# Altium footprint library Sonar_Gonderici_PcbLib1.PcbLib: 14 footprints
Each footprint in its own frame and in the unit in brackets; x right, y up, seen from the top. Pads: shape width x height; smd on the part's side, far side on the other; paste and mask are expansions set on the pad; w line width, h text height; cw(c..) or ccw(c..) is an arc to the next point about the centre after c.
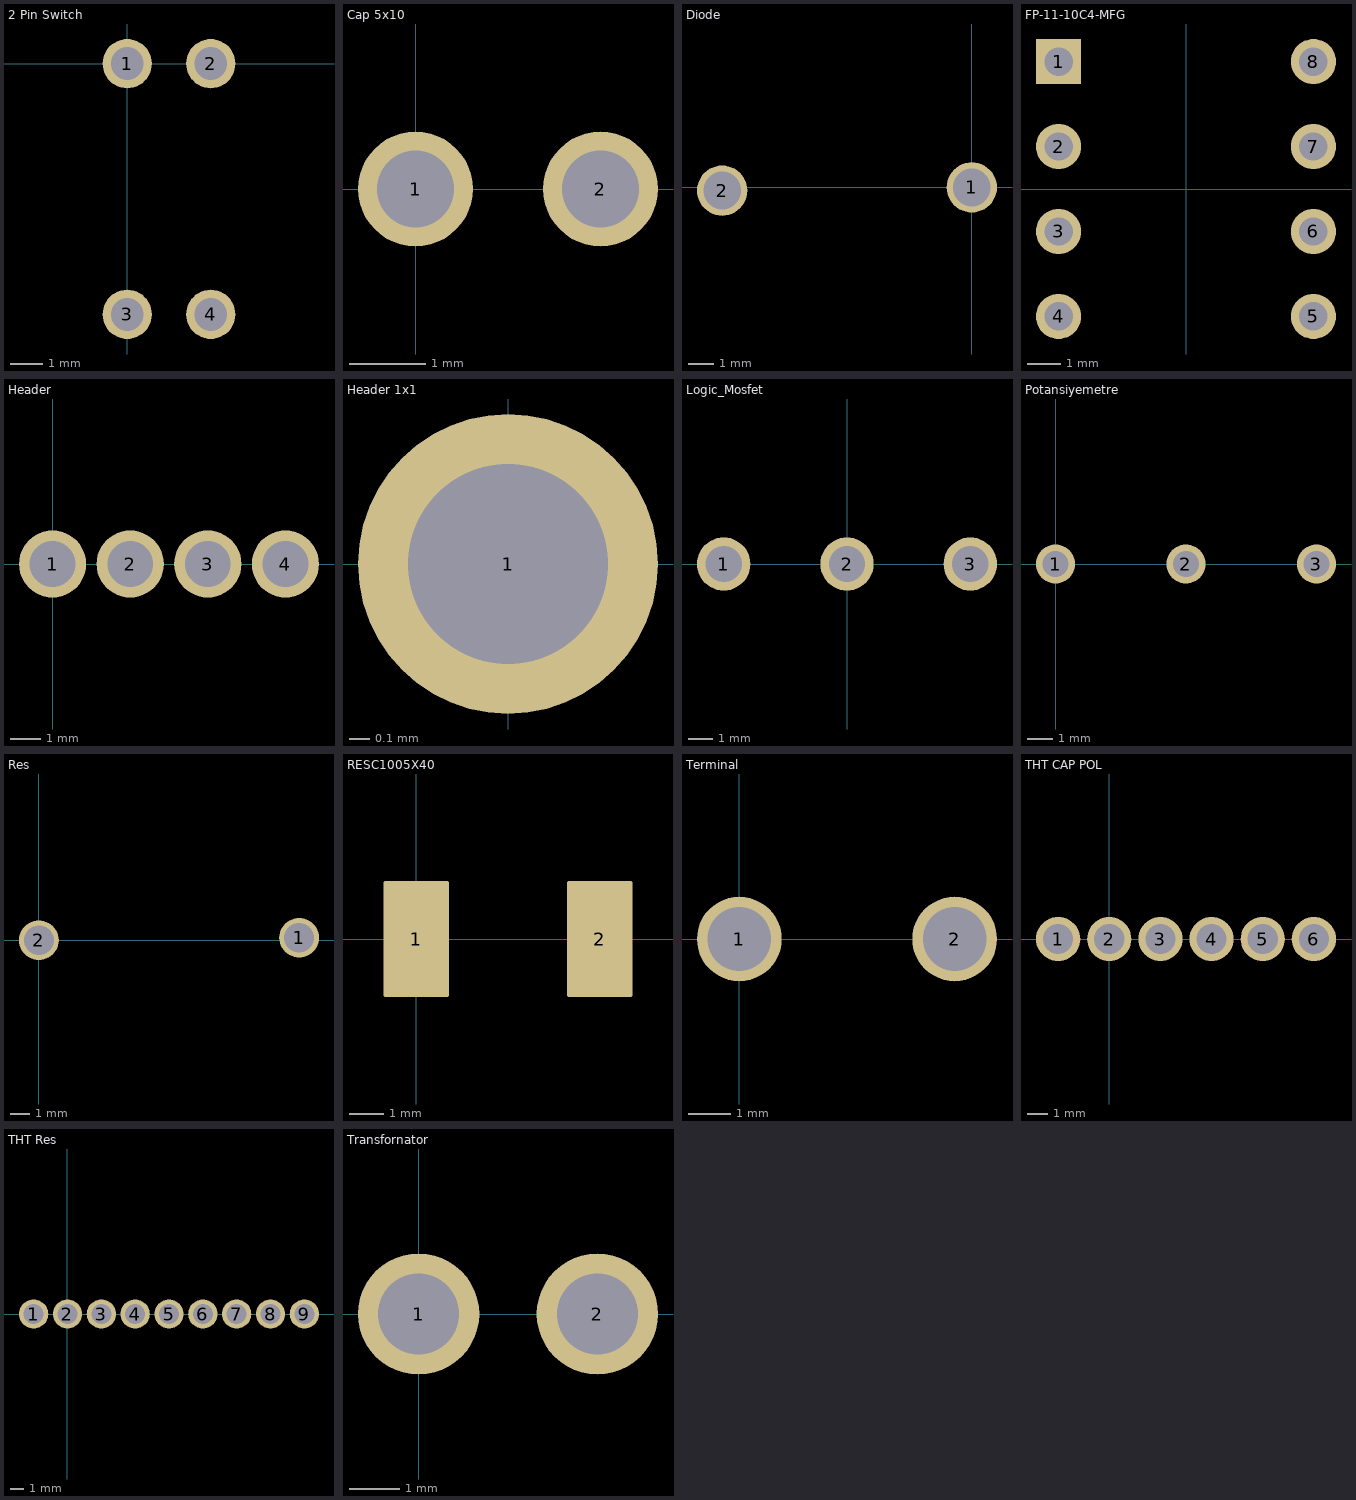
[diagram p0: the footprints below, top view; thin cyan lines are the x and y axes]

## 2 Pin Switch [mm]
pads (4):
  round 1.5 hole 1: 1(0,0) 2(2.54,0) 3(0,-7.62) 4(2.54,-7.62)
3D body "DIP Blue 2-way.step": height 6.7, standoff -2, extent -1.95,-8.76 4.49,1.14

## Cap 5x10 [mm]
pads (2):
  round 1.5 hole 1: 1(0,0) 2(2.413,0)
3D body "CAP_10uF_50V_low_profile.stp": height 1.6, standoff -9, extent -2.018,-3.16 4.304,3.16

## Diode [mm]
pads (2):
  round 2 hole 1.5: 1(0,0) 2(-9.906,-0.127)
3D body "CircuitWorks-DIODE0_41.STEP": height 4.55, standoff -0.54, extent -10.414,-1.422 0.508,1.143

## FP-11-10C4-MFG [mm]
pads (8):
  rect 1.35x1.35 hole 0.85 paste-1000 mask+0: 1(-3.81,3.81)
  round 1.35 hole 0.85 paste-1000 mask+0: 2(-3.81,1.27) 3(-3.81,-1.27) 4(-3.81,-3.81) 5(3.81,-3.81) 6(3.81,-1.27) 7(3.81,1.27) 8(3.81,3.81)
3D body "Trans_TOSHIBA_TLP250_eec.STEP": height 8.85, standoff 1.5, extent -3.935,-4.83 3.935,4.83
3D body "8 pin IC socket.SLDPRT": height 5.1, standoff -3.6, extent -5.258,-5.056 4.942,5.044

## Header [mm]
pads (4):
  round 2.2 hole 1.5: 1(0,0) 2(2.54,0) 3(5.08,0) 4(7.62,0)
3D body "Pin Header 1x4 TH Pitch 2.54mm.stp": height 9.5, standoff -3.2, extent -1.27,-1.27 8.89,1.27

## Header 1x1 [mm]
pads (1):
  round 1.5 hole 1: 1(0,0)
3D body "User Library-RM254_1pin.STEP": height 6.02, standoff -3.1, extent -1.27,-1.27 1.27,1.27

## Logic_Mosfet [mm]
pads (3):
  round 2.2 hole 1.5: 1(-5.08,0) 2(0,0) 3(5.08,0)
3D body "12h8420_282841-3.stp": height 16.2, standoff -2.5, extent -8.128,-4.373 7.612,4.627
3D body "TO220andHeatsinkAssy.STEP": height 36.8, standoff 13.69, extent -6.858,-3.556 8.142,5.992

## Potansiyemetre [mil]
pads (3):
  round 60 hole 40.16: 1(0,0) 2(200.64,0) 3(401.44,0)
3D body "PotentiometerAssy.STEP": height 826.83, standoff -147.47, extent -114.52,-868.54 519.34,233.83

## Res [mm]
pads (2):
  round 2 hole 1.5: 1(13.081,0.127) 2(0,0)
3D body "User Library-Res50-Axial 0_5W-10K.STEP": height 5.38, standoff -4, extent -0.127,-1.972 13.323,1.778

## RESC1005X40 [mm]
pads (2):
  rrect7% 1.9x3.37 smd: 1(0,0) 2(5.32,0)
3D body "CircuitWorks-RESISTOR 2512.STEP": height 0.58, standoff -0.03, extent -0.508,-1.609 5.842,1.651

## Terminal [mm]
pads (2):
  round 2 hole 1.5: 1(0,0) 2(5.08,0)
3D body "70088851.stp": height 15.2, standoff -3.5, extent -3.147,-4.487 7.513,4.513

## THT CAP POL [mm]
pads (6):
  round 2.2 hole 1.5: 1(-2.54,0) 2(0,0) 3(2.54,0) 4(5.08,0) 5(7.62,0) 6(10.16,0)
3D body "CAP_10uF_50V_low_profile.stp": height -7.4, standoff -18, extent 0.663,-3.018 6.985,3.302
3D body "female_header_a-bl254-eg-g06d.stp": height 8.5, standoff -3.2, extent -3.933,-1.25 11.557,1.25

## THT Res [mm]
pads (9):
  round 2.2 hole 1.5: 1(-2.54,0) 2(0,0) 3(2.54,0) 4(5.08,0) 5(7.62,0) 6(10.16,0) 7(12.7,0) 8(15.24,0) 9(17.78,0)
3D body "User Library-Res50-Axial 0_5W-10K.STEP": height 15.38, standoff 6, extent 0.895,-2.032 14.345,1.718
3D body "female_header_a-bl254-eg-g09d.stp": height 8.5, standoff -3.2, extent -4.064,-1.25 19.046,1.25

## Transfornator [mm]
pads (2):
  round 2.43 hole 1.62: 1(0,0) 2(3.58,0)
3D body "Plug 200mil.STEP": height 13.95, standoff -1.05, extent -3.175,-18.1 6.985,0.1
3D body "Header 3.81mm.STEP": height 7.65, standoff -3.4, extent -2.66,-7.902 6.35,1.298